# EAGLE library part DM3AT-SF-PEJM5 (library BlueBoard)
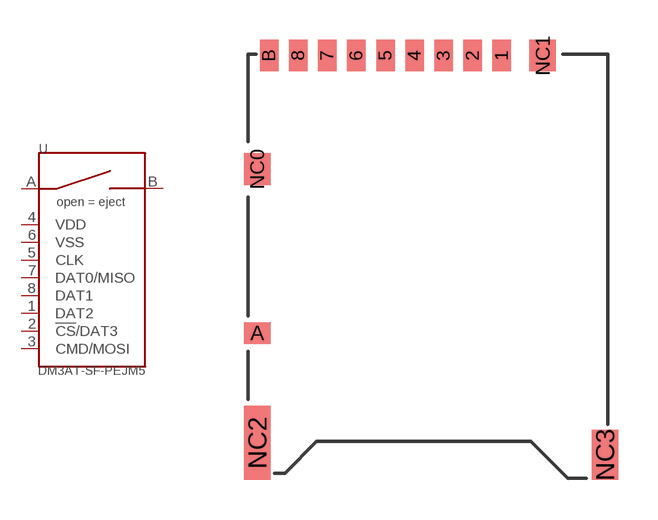
[diagram p4: symbol with the pads of DM3AT; footprint DM3AT]

Designator prefix -

## DM3AT-SF-PEJM5  [DM3AT]
1  DAT2
2  !CS!/DAT3
3  CMD/MOSI
4  VDD  pwr
5  CLK
6  VSS  pwr
7  DAT0/MISO
8  DAT1
A  A
B  B

## Footprint DM3AT (pad centres in mm)
smd 0.7 x 1.2: 1 3.2,0.6; 2 2.1,0.6; 3 1,0.6; 4 -0.1,0.6; 5 -1.2,0.6; 6 -2.3,0.6; 7 -3.4,0.6; 8 -4.5,0.6; B -5.6,0.6
smd 1 x 0.8: A -6.05,-9.9
smd 1 x 1.2: NC0 -6.05,-3.7; NC1 4.75,0.6
smd 1 x 2.8: NC2 -6.05,-14.05
smd 1 x 1.9: NC3 7.1,-14.5